# Altium schematic symbol library Schlib2.SchLib: 2 symbols
Pins are listed as number, name and electrical type; pins without a type are passive.

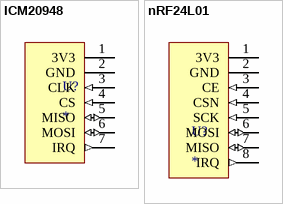
[diagram p0: symbols ICM20948 to nRF24L01]

## ICM20948
designator U?
pins: 1 3V3 (power), 2 GND (power), 3 CLK (in), 4 CS (in), 5 MISO (io), 6 MOSI (io), 7 IRQ (out)

## nRF24L01
designator U?
pins: 1 3V3 (power), 2 GND (power), 3 CE (in), 4 CSN (in), 5 SCK (in), 6 MOSI (io), 7 MISO (io), 8 IRQ (out)